# Altium schematic symbol library USB_A.SchLib: 1 symbol
Pins are listed as number, name and electrical type; pins without a type are passive.

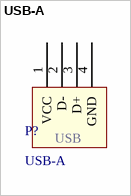
[diagram p0: symbol USB-A]

## USB-A
designator P?
USB-A SMT Connector
footprint USB-A (USB-A SMT Connector)
pins: 1 VCC, 2 D-, 3 D+, 4 GND
text: USB